# Altium schematic symbol library XFL4020-152MEC.SchLib: 1 symbol
Pins are listed as number, name and electrical type; pins without a type are passive.

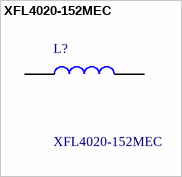
[diagram p0: symbol XFL4020-152MEC]

## XFL4020-152MEC
designator L?
COILCRAFT - XFL4020-152MEC - Power Inductor (SMD), 1.5 H, 9.1 A, Shielded, 4.1 A, XFL4020; Geometry.Height: 2.1mm; Mouser Part Number: 994-XFL4020-152MEC; Mouser Price/Stock: https://www.mouser.co.uk/ProductDetail/Coilcraft/XFL4020-152MEC?qs=zCSbvcPd3pak5QYA2uujRA%3D%3D; Manufacturer_Name: COILCRAFT; Manufacturer_Part_Number: XFL4020-152MEC; Datasheet Link: https://www.coilcraft.com/getmedia/50632d43-da1b-4cdb-8ab4-3029cab51df3/xfl4020.pdf
footprint XFL4020152MEC
pins: 1, 2